# EAGLE library part KXN_TB6612_PORT_1X7 (library MakerShop)
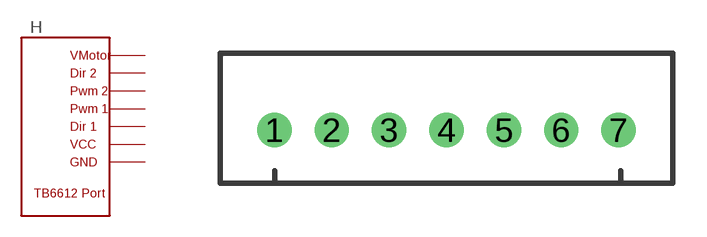
[diagram p6: symbol with the pads of KXN_PORT_1X7; footprint KXN_PORT_1X7]

Designator prefix H

## KXN_TB6612_PORT_1X7MASTER  [KXN_PORT_1X7]
1  P$1
2  P$2
3  P$3
4  P$4
5  P$5
6  P$6
7  P$7

## KXN_TB6612_PORT_1X7SLAVE  [KXN_PORT_1X7]
1  P$7
2  P$6
3  P$5
4  P$4
5  P$3
6  P$2
7  P$1

## Footprint KXN_PORT_1X7 (pad centres in mm)
drill 1.016: 1 -7.62,0; 2 -5.08,0; 3 -2.54,0; 4 0,0; 5 2.54,0; 6 5.08,0; 7 7.62,0